# Altium footprint library SparkFun-DiscreteSemi.PCBLIB: 14 footprints
Each footprint in its own frame and in the unit in brackets; x right, y up, seen from the top. Pads: shape width x height; smd on the part's side, far side on the other; paste and mask are expansions set on the pad; w line width, h text height; cw(c..) or ccw(c..) is an arc to the next point about the centre after c.
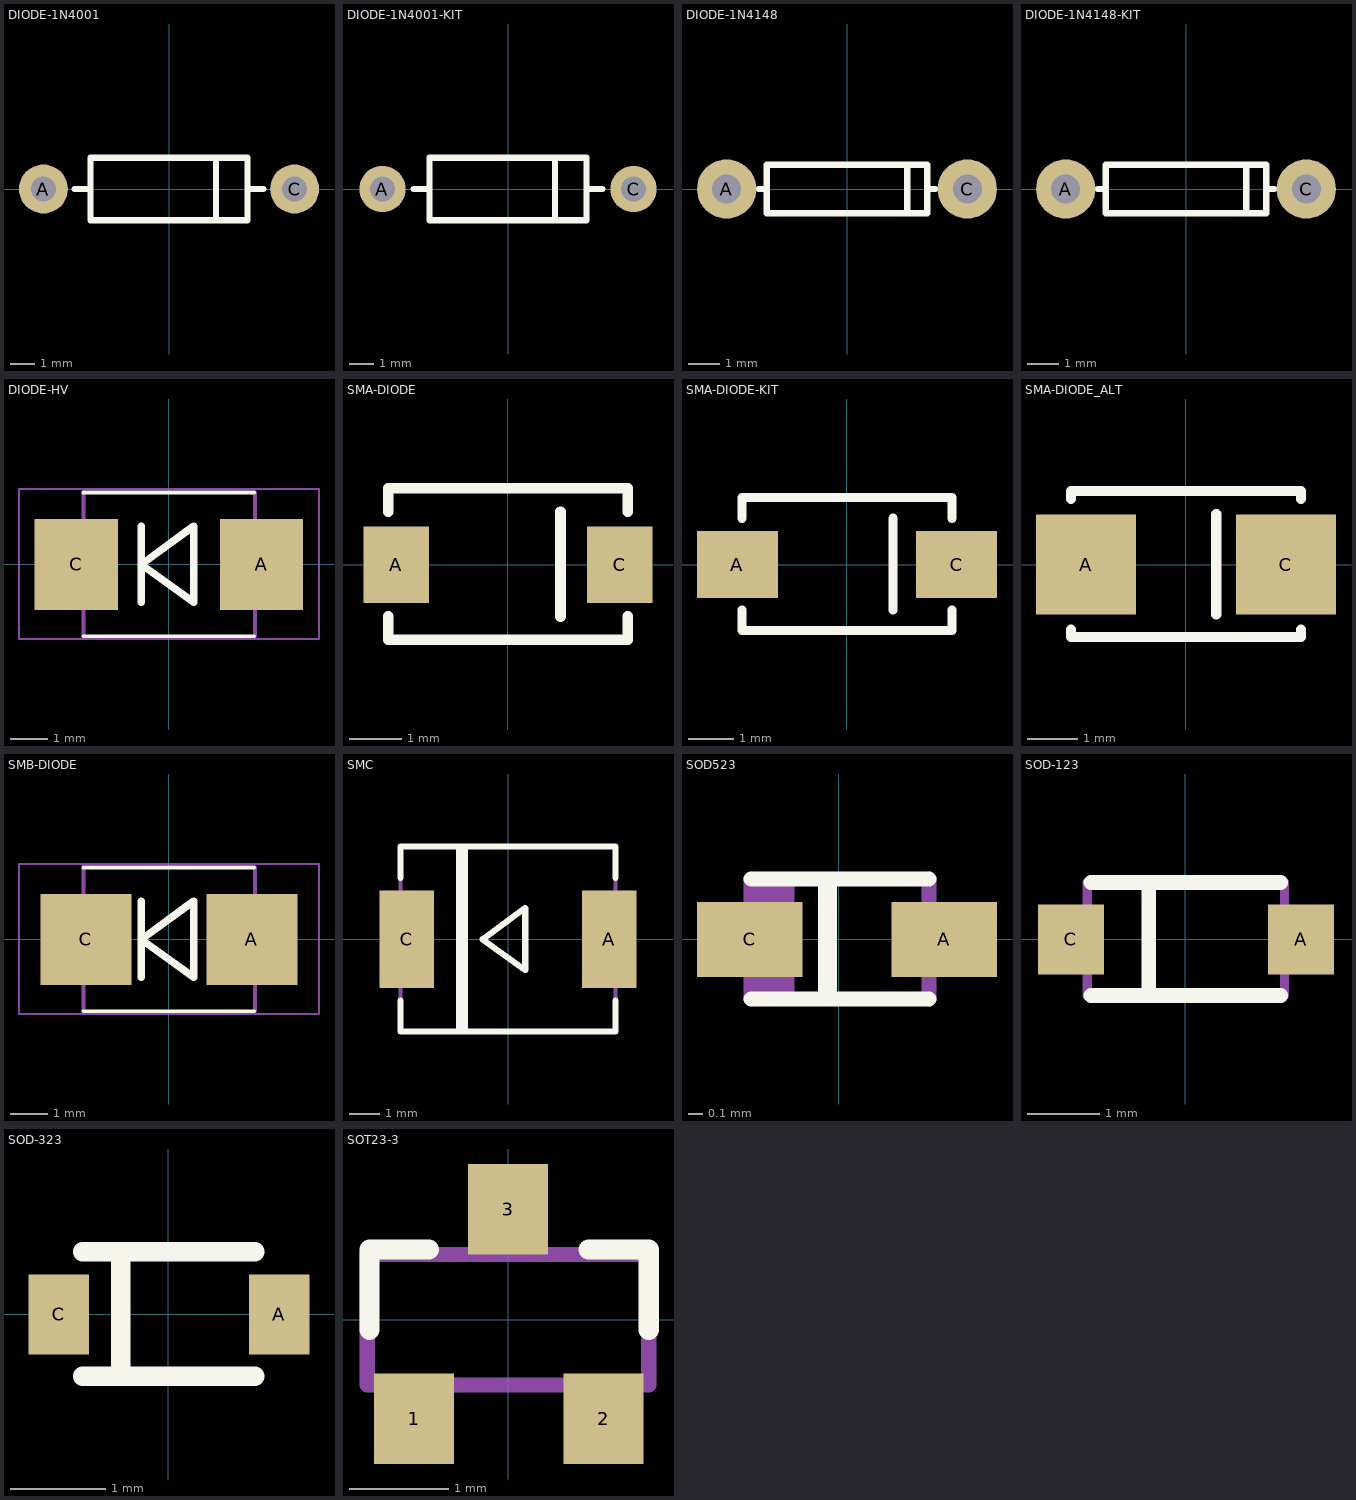
[diagram p0: the footprints below, top view; thin cyan lines are the x and y axes]

## DIODE-1N4001 [mil]
pads (2):
  round 78 hole 40: A(-200,0) C(200,0)
Top Overlay:
  lines w10: -150,0 -125,0 ; 150,0 125,0 ; -125,0 -125,50 75,50 ; -125,0 -125,-50 75,-50 ; 75,-50 125,-50 125,0 ; 75,-50 75,50 ; 75,50 125,50 125,0

## DIODE-1N4001-KIT [mil]
pads (2):
  round 74 hole 40: A(-200,0) C(200,0)
Top Overlay:
  lines w10: -150,0 -125,0 ; 150,0 125,0 ; -125,0 -125,50 75,50 ; -125,0 -125,-50 75,-50 ; 75,-50 125,-50 125,0 ; 75,-50 75,50 ; 75,50 125,50 125,0
Top Solder:
  circle w0: c-200,0 r20
  circle w0: c200,0 r20
Bottom Solder:
  circle w0: c-200,0 r39
  circle w0: c200,0 r39

## DIODE-1N4148 [mil]
pads (2):
  round 74 hole 36: A(-150,0) C(150,0)
Top Overlay:
  lines w8: -110,0 -100,0 ; 75,-25 75,25 ; 110,0 100,0 ; -100,0 -100,-30 100,-30 100,0 ; -100,0 -100,30 100,30 100,0

## DIODE-1N4148-KIT [mil]
pads (2):
  round 74 hole 36: A(-150,0) C(150,0)
Top Overlay:
  lines w8: -110,0 -100,0 ; 75,-25 75,25 ; 110,0 100,0 ; -100,0 -100,-30 100,-30 100,0 ; -100,0 -100,30 100,30 100,0
Top Solder:
  circle w0: c-150,0 r18
  circle w0: c-150,0 r18
  circle w0: c150,0 r18
Bottom Solder:
  circle w0: c-150,0 r37
  circle w0: c150,0 r37

## DIODE-HV [mil]
pads (2):
  rect 87x95 smd: A(97,0) C(-96.61,0)
Top Overlay:
  lines w4: -89,-75 89,-75 ; -89,75 89,75
  lines w8: -28.74,-39.37 -28.74,40 ; -28.74,0 26,40 26,-39.37 -28.74,0
Mechanical 16:
  rectangle: -110,-43 -89,43
  rectangle: 89,-43 110,43
  lines w4: -89.02,-75 -89.02,75 ; 90,-75 90,75
Mechanical 27:
  lines w2: -156.42,-78.07 157,-78.07 157,79 -156.42,79 -156.42,-78.07

## SMA-DIODE [mil]
pads (2):
  rect 50x58 smd: A(-84.65,0) C(85,0)
Top Overlay:
  lines w8: -90.55,-39.37 -90.55,-57.09 91,-57.09 91,-39.37 ; -90.55,40 -90.55,58 91,58 91,40 ; 40,-39.37 40,40

## SMA-DIODE-KIT [mil]
pads (2):
  rect 70x58 smd: A(-94.49,0) C(95,0)
Top Overlay:
  lines w8: -90.55,-39.37 -90.55,-57.09 91,-57.09 91,-39.37 ; -90.55,40 -90.55,58 91,58 91,40 ; 40,-39.37 40,40

## SMA-DIODE_ALT [mil]
pads (2):
  rect 79x79 smd: A(-78.74,0) C(79,0)
Top Overlay:
  lines w8: -90.55,-51.18 -90.55,-57.09 91,-57.09 91,-51.18 ; -90.55,52 -90.55,58 91,58 91,52 ; 24,-39.37 24,40

## SMB-DIODE [mil]
pads (2):
  rect 95x95 smd: A(87,0) C(-86.61,0)
Top Overlay:
  lines w4: -89,-75 89,-75 ; -89,75 89,75
  lines w8: -28.74,-39.37 -28.74,40 ; -28.74,0 26,40 26,-39.37 -28.74,0
Mechanical 16:
  rectangle: -110,-43 -89,43
  rectangle: 89,-43 110,43
  lines w4: -89.02,-75 -89.02,75 ; 90,-75 90,75
Mechanical 27:
  lines w2: -156.42,-78.07 157,-78.07 157,79 -156.42,79 -156.42,-78.07

## SMC [mil]
pads (2):
  rect 70x125 smd: A(130,0) C(-130,0)
Top Overlay:
  rectangle: -66.93,-118.11 -51.18,119
  lines w8: -137.8,-78.74 -137.8,-118.11 138,-118.11 138,-78.74 ; -137.8,79 -137.8,119 138,119 138,79 ; -32.68,0 22,40 22,-39.37 -32.68,0
Mechanical 16:
  rectangle: -157.48,-59.06 -137.8,60
  rectangle: 138,-59.06 158,60
  lines w5: -137.8,-118.11 -137.8,119 ; 138,-118.11 138,119

## SOD523 [mil]
pads (2):
  rect 28x20 smd: A(28,0) C(-23.62,0)
Top Overlay:
  rectangle: -5.5,-15.5 -0.5,15
  lines w4: -23.23,-15.75 24,-15.75 ; -23.23,16 24,16
Mechanical 16:
  rectangle: -29.53,-6.69 -21.26,7
  rectangle: 22,-6.69 30,7
  rectangle: -23.23,-15.75 -11.81,16
  lines w4: -23.23,-15.75 -23.23,16 ; 24,-15.75 24,16

## SOD-123 [mil]
pads (2):
  rect 36x38 smd: A(63,0) C(-62.01,0)
Top Overlay:
  lines w8: -51.18,-30.51 -19.68,-30.51 ; -51.18,31 -19.68,31 ; 52,-30.51 -19.68,-30.51 ; 52,31 -19.68,31 ; -19.68,-30.51 -19.68,31
Mechanical 16:
  lines w5: -53.15,-30.51 54,-30.51 54,31 -53.15,31 -53.15,-30.51

## SOD-323 [mil]
pads (2):
  rect 25x33 smd: A(46,0) C(-45.28,0)
Top Overlay:
  lines w8: -35.43,-25.59 -19.68,-25.59 ; -35.43,26 -19.68,26 ; 36,-25.59 -19.68,-25.59 ; 36,26 -19.68,26 ; -19.68,-25.59 -19.68,26

## SOT23-3 [mil]
pads (3):
  rect 32x36 smd: 1(-37.4,-39.37) 2(38,-39.37) 3(0,44)
Top Overlay:
  lines w8: -55.12,-3.94 -55.12,28 -31.5,28 ; 32,28 56,28 56,-3.94
Mechanical 16:
  lines w6: -56,-26 56,-26 56,26 -56,26 -56,-26